# EAGLE library part 2X25_HEADER (library CONNECTORs)
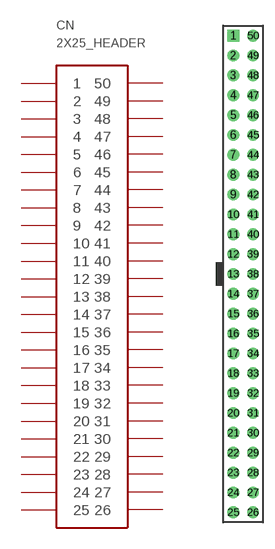
[diagram p83: symbol with the pads of 50PIN_HEADER; footprint 50PIN_HEADER]

Designator prefix CN

## 2X25_HEADER (DIGIKEY: something111)  [50PIN_HEADER]
1  1
2  2
3  3
4  4
5  5
6  6
7  7
8  8
9  9
10  10
11  11
12  12
13  13
14  14
15  15
16  16
17  17
18  18
19  19
20  20
21  21
22  22
23  23
24  24
25  25
26  26
27  27
28  28
29  29
30  30
31  31
32  32
33  33
34  34
35  35
36  36
37  37
38  38
39  39
40  40
41  41
42  42
43  43
44  44
45  45
46  46
47  47
48  48
49  49
50  50

## Footprint 50PIN_HEADER (pad centres in mm)
drill 1 pad 1.5 square: 1 -1.27,30.48
drill 1 pad 1.5: 2 -1.27,27.94; 3 -1.27,25.4; 4 -1.27,22.86; 5 -1.27,20.32; 6 -1.27,17.78; 7 -1.27,15.24; 8 -1.27,12.7; 9 -1.27,10.16; 10 -1.27,7.62; 11 -1.27,5.08; 12 -1.27,2.54; 13 -1.27,0; 14 -1.27,-2.54; 15 -1.27,-5.08; 16 -1.27,-7.62; 17 -1.27,-10.16; 18 -1.27,-12.7; 19 -1.27,-15.24; 20 -1.27,-17.78; 21 -1.27,-20.32; 22 -1.27,-22.86; 23 -1.27,-25.4; 24 -1.27,-27.94; 25 -1.27,-30.48; 26 1.27,-30.48; 27 1.27,-27.94; 28 1.27,-25.4; 29 1.27,-22.86; 30 1.27,-20.32; 31 1.27,-17.78; 32 1.27,-15.24; 33 1.27,-12.7; 34 1.27,-10.16; 35 1.27,-7.62; 36 1.27,-5.08; 37 1.27,-2.54; 38 1.27,0; 39 1.27,2.54; 40 1.27,5.08; 41 1.27,7.62; 42 1.27,10.16; 43 1.27,12.7; 44 1.27,15.24; 45 1.27,17.78; 46 1.27,20.32; 47 1.27,22.86; 48 1.27,25.4; 49 1.27,27.94; 50 1.27,30.48